# EAGLE library part DRV8871 (library DC_Brushed_Motor)
DRV8871: Brushed DC Motor Driver Specifications: Manufacturer: Texas Instruments Motor Type: Brushed DC Interface: PWM Technology: NMOS Current Output: 3.6 A Voltage Supply: 0V ~ 5.5V Voltage Load: 6.5V ~ 45V Package: 8--PowerSOIC Datasheet: DRV8871 <Beginning STM32: Developing with FreeRTOS, libopencm3 and GCC> Digi-Key Part #: 296-44509-5-ND <https://www.digikey.com/product-detail/en/Texas+Instruments/DRV8871DDA/296-44509-5-ND/6110574>
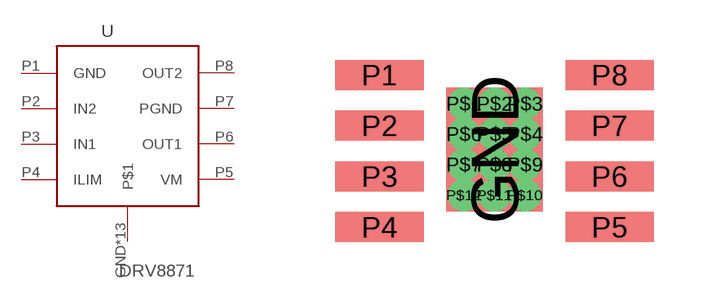
[diagram p0: symbol with the pads of SO8_EP; footprint SO8_EP]

Designator prefix U

## DRV8871  [SO8_EP]
GND  P$1
P1  GND  pwr
P2  IN2  in
P3  IN1  in
P4  ILIM  in
P5  VM  pwr
P6  OUT1  out
P7  PGND  pwr
P8  OUT2  out
P$1  P$1
P$2  P$1
P$3  P$1
P$4  P$1
P$5  P$1
P$6  P$1
P$7  P$1
P$8  P$1
P$9  P$1
P$10  P$1
P$11  P$1
P$12  P$1

## Footprint SO8_EP (pad centres in mm)
smd 2.4 x 3.1: GND 0,0
smd 2.2 x 0.75: P1 -2.875,1.87; P2 -2.875,0.6; P3 -2.875,-0.67; P4 -2.875,-1.94; P5 2.876,-1.94; P6 2.875,-0.67; P7 2.875,0.6; P8 2.875,1.87
drill 0.3 pad 0.406: P$1 -0.762,1.143; P$2 0,1.143; P$3 0.762,1.143; P$4 0.762,0.381; P$5 0,0.381; P$6 -0.762,0.381; P$7 -0.762,-0.381; P$8 0,-0.381; P$9 0.762,-0.381; P$10 0.762,-1.143; P$11 0,-1.143; P$12 -0.762,-1.143